# Altium schematic symbol library AO3401A.Schlib: 1 symbol
Pins are listed as number, name and electrical type; pins without a type are passive.

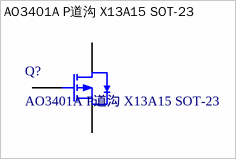
[diagram p0: symbol AO3401A P道沟 X13A15 SOT-23]

## AO3401A P道沟 X13A15 SOT-23
designator Q?
MOS(场效应管)
footprint SOT-23-3L (http://www.aosmd.com/res/packaging_information/SOT-23-3L.pdf)
pins: 1 G, 2 S, 3 D